# EAGLE library part AW9523 (library AW9523)
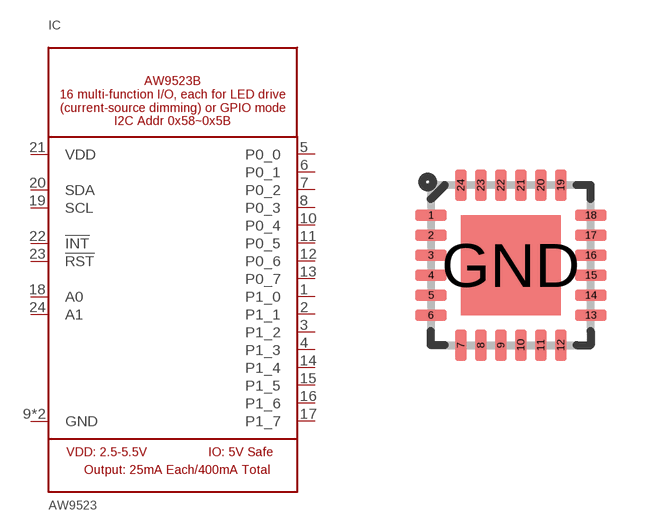
[diagram p0: symbol with the pads of QFN24_4MM_SMSC; footprint QFN24_4MM_SMSC]

Designator prefix IC

## AW9523  [QFN24_4MM_SMSC]
1  P1_0
2  P1_1
3  P1_2
4  P1_3
5  P0_0
6  P0_1
7  P0_2
8  P0_3
9  GND  pwr
10  P0_4
11  P0_5
12  P0_6
13  P0_7
14  P1_4
15  P1_5
16  P1_6
17  P1_7
18  A0  in
19  SCL
20  SDA
21  VDD  pwr
22  !INT  out
23  !RST  in
24  A1  in
GND  GND  pwr

## Footprint QFN24_4MM_SMSC (pad centres in mm)
smd 0.8 x 0.28: 1 -2,1.25; 2 -2,0.75; 3 -2,0.25; 4 -2,-0.25; 5 -2,-0.75; 6 -2,-1.25; 13 2,-1.25; 14 2,-0.75; 15 2,-0.25; 16 2,0.25; 17 2,0.75; 18 2,1.25
smd 0.28 x 0.8: 7 -1.25,-2; 8 -0.75,-2; 9 -0.25,-2; 10 0.25,-2; 11 0.75,-2; 12 1.25,-2; 19 1.25,2; 20 0.75,2; 21 0.25,2; 22 -0.25,2; 23 -0.75,2; 24 -1.25,2
smd 2.5 x 2.5: GND 0,0